# Altium footprint library Connector_Molex.PcbLib: 815 footprints (part 36 of 51)
Each footprint in its own frame and in the unit in brackets; x right, y up, seen from the top. Pads: shape width x height; smd on the part's side, far side on the other; paste and mask are expansions set on the pad; w line width, h text height; cw(c..) or ccw(c..) is an arc to the next point about the centre after c.
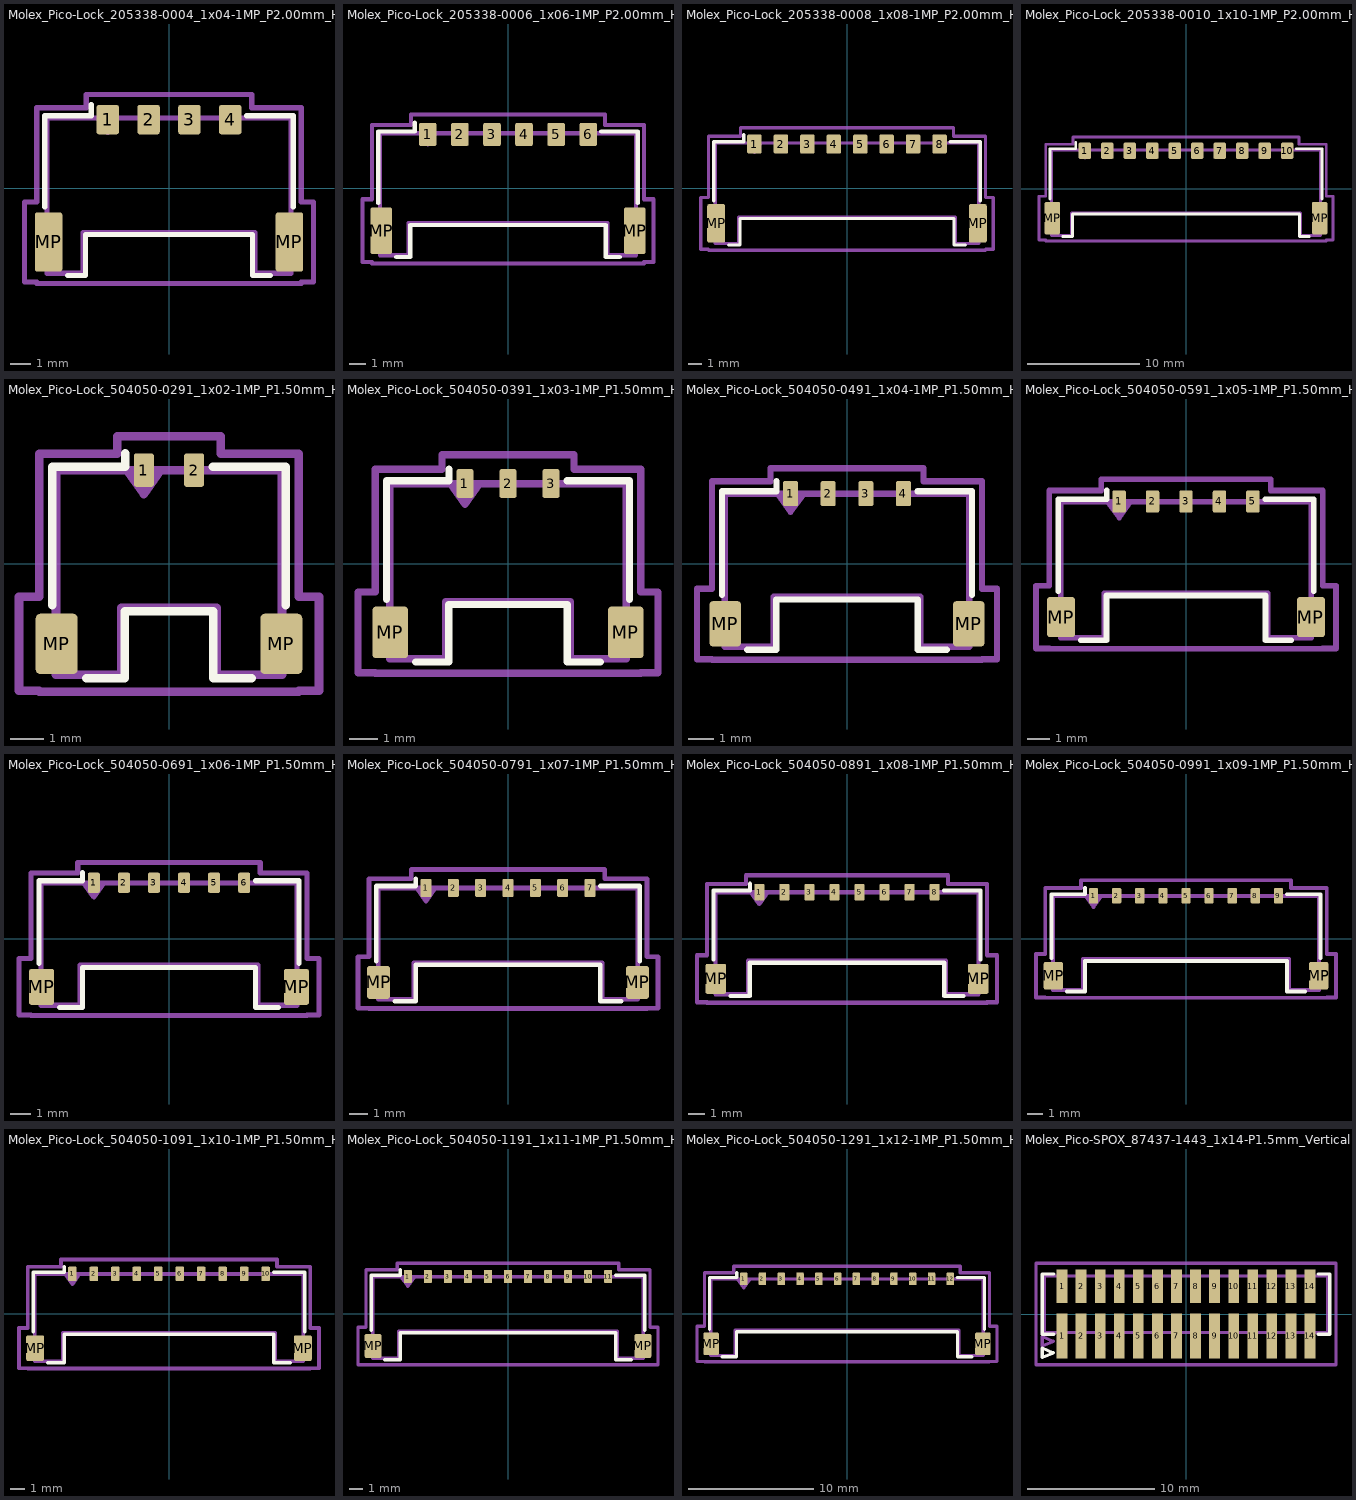
[diagram p35: the footprints below, top view; thin cyan lines are the x and y axes]

## Molex_Pico-Lock_205338-0004_1x04-1MP_P2.00mm_Horizontal [mm]
pads (6):
  rrect23% 1.1x1.45 smd: 1(-3,3.36) 2(-1,3.36) 3(1,3.36) 4(3,3.36)
  rrect19% 1.35x2.9 smd: MP(-5.895,-2.635) MP(5.895,-2.635)
F.SilkS:
  lines w0.254: -6.085,-0.925 -6.085,3.545 -3.81,3.545 -3.81,4.085 ; -4.96,-4.275 -4.09,-4.275 -4.09,-2.275 4.09,-2.275 4.09,-4.275 4.96,-4.275 ; 3.81,3.545 6.085,3.545 6.085,-0.925
Top Assembly:
  lines w0.254: -3.5,3.435 -3,2.728 -2.5,3.435 ; -5.975,-4.165 -4.2,-4.165 -4.2,-2.165 4.2,-2.165 4.2,-4.165 5.975,-4.165 5.975,3.435 -5.975,3.435 -5.975,-4.165
  text "'.Designator'" at -4.047,-1.21 h1
Top Courtyard:
  lines w0.254: -7.07,-4.59 -6.48,-4.59 -6.48,-4.67 6.48,-4.67 6.48,-4.59 7.07,-4.59 7.07,-0.68 6.48,-0.68 6.48,3.94 4.05,3.94 4.05,4.59 -4.05,4.59 -4.05,3.94 -6.48,3.94 -6.48,-0.68 -7.07,-0.68 -7.07,-4.59
Top Designator:
  text ".Designator" at -7.618,-0.548 h1.52

## Molex_Pico-Lock_205338-0006_1x06-1MP_P2.00mm_Horizontal [mm]
pads (8):
  rrect23% 1.1x1.45 smd: 1(-5,3.36) 2(-3,3.36) 3(-1,3.36) 4(1,3.36) 5(3,3.36) 6(5,3.36)
  rrect19% 1.35x2.9 smd: MP(-7.895,-2.635) MP(7.895,-2.635)
F.SilkS:
  lines w0.254: -8.085,-0.925 -8.085,3.545 -5.81,3.545 -5.81,4.085 ; -6.96,-4.275 -6.09,-4.275 -6.09,-2.275 6.09,-2.275 6.09,-4.275 6.96,-4.275 ; 5.81,3.545 8.085,3.545 8.085,-0.925
Top Assembly:
  lines w0.254: -5.5,3.435 -5,2.728 -4.5,3.435 ; -7.975,-4.165 -6.2,-4.165 -6.2,-2.165 6.2,-2.165 6.2,-4.165 7.975,-4.165 7.975,3.435 -7.975,3.435 -7.975,-4.165
  text "'.Designator'" at -4.047,-1.21 h1
Top Courtyard:
  lines w0.254: -9.07,-4.59 -8.48,-4.59 -8.48,-4.67 8.48,-4.67 8.48,-4.59 9.07,-4.59 9.07,-0.68 8.48,-0.68 8.48,3.94 6.05,3.94 6.05,4.59 -6.05,4.59 -6.05,3.94 -8.48,3.94 -8.48,-0.68 -9.07,-0.68 -9.07,-4.59
Top Designator:
  text ".Designator" at -7.618,-0.548 h1.52

## Molex_Pico-Lock_205338-0008_1x08-1MP_P2.00mm_Horizontal [mm]
pads (10):
  rrect23% 1.1x1.45 smd: 1(-7,3.36) 2(-5,3.36) 3(-3,3.36) 4(-1,3.36) 5(1,3.36) 6(3,3.36) 7(5,3.36) 8(7,3.36)
  rrect19% 1.35x2.9 smd: MP(-9.895,-2.635) MP(9.895,-2.635)
F.SilkS:
  lines w0.254: -10.085,-0.925 -10.085,3.545 -7.81,3.545 -7.81,4.085 ; -8.96,-4.275 -8.09,-4.275 -8.09,-2.275 8.09,-2.275 8.09,-4.275 8.96,-4.275 ; 7.81,3.545 10.085,3.545 10.085,-0.925
Top Assembly:
  lines w0.254: -7.5,3.435 -7,2.728 -6.5,3.435 ; -9.975,-4.165 -8.2,-4.165 -8.2,-2.165 8.2,-2.165 8.2,-4.165 9.975,-4.165 9.975,3.435 -9.975,3.435 -9.975,-4.165
  text "'.Designator'" at -4.047,-1.21 h1
Top Courtyard:
  lines w0.254: -11.07,-4.59 -10.48,-4.59 -10.48,-4.67 10.48,-4.67 10.48,-4.59 11.07,-4.59 11.07,-0.68 10.48,-0.68 10.48,3.94 8.05,3.94 8.05,4.59 -8.05,4.59 -8.05,3.94 -10.48,3.94 -10.48,-0.68 -11.07,-0.68 -11.07,-4.59
Top Designator:
  text ".Designator" at -7.618,-0.548 h1.52

## Molex_Pico-Lock_205338-0010_1x10-1MP_P2.00mm_Horizontal [mm]
pads (12):
  rrect23% 1.1x1.45 smd: 1(-9,3.36) 2(-7,3.36) 3(-5,3.36) 4(-3,3.36) 5(-1,3.36) 6(1,3.36) 7(3,3.36) 8(5,3.36) 9(7,3.36) 10(9,3.36)
  rrect19% 1.35x2.9 smd: MP(-11.895,-2.635) MP(11.895,-2.635)
F.SilkS:
  lines w0.254: -12.085,-0.925 -12.085,3.545 -9.81,3.545 -9.81,4.085 ; -10.96,-4.275 -10.09,-4.275 -10.09,-2.275 10.09,-2.275 10.09,-4.275 10.96,-4.275 ; 9.81,3.545 12.085,3.545 12.085,-0.925
Top Assembly:
  lines w0.254: -9.5,3.435 -9,2.728 -8.5,3.435 ; -11.975,-4.165 -10.2,-4.165 -10.2,-2.165 10.2,-2.165 10.2,-4.165 11.975,-4.165 11.975,3.435 -11.975,3.435 -11.975,-4.165
  text "'.Designator'" at -4.047,-1.21 h1
Top Courtyard:
  lines w0.254: -13.07,-4.59 -12.48,-4.59 -12.48,-4.67 12.48,-4.67 12.48,-4.59 13.07,-4.59 13.07,-0.68 12.48,-0.68 12.48,3.94 10.05,3.94 10.05,4.59 -10.05,4.59 -10.05,3.94 -12.48,3.94 -12.48,-0.68 -13.07,-0.68 -13.07,-4.59
Top Designator:
  text ".Designator" at -7.618,-0.548 h1.52

## Molex_Pico-Lock_504050-0291_1x02-1MP_P1.50mm_Horizontal [mm]
pads (4):
  rrect25% 0.6x1 smd: 1(-0.75,2.795) 2(0.75,2.795)
  rrect20% 1.25x1.8 smd: MP(-3.355,-2.395) MP(3.355,-2.395)
F.SilkS:
  lines w0.254: -3.485,-1.235 -3.485,2.895 -1.31,2.895 -1.31,3.295 ; -2.47,-3.425 -1.315,-3.425 -1.315,-1.425 1.315,-1.425 1.315,-3.425 2.47,-3.425 ; 1.31,2.895 3.485,2.895 3.485,-1.235
Top Assembly:
  lines w0.254: -1.25,2.785 -0.75,2.078 -0.25,2.785 ; -3.375,-3.315 -1.425,-3.315 -1.425,-1.315 1.425,-1.315 1.425,-3.315 3.375,-3.315 3.375,2.785 -3.375,2.785 -3.375,-3.315
  text "'.Designator'" at -4.047,-1.11 h1
Top Courtyard:
  lines w0.254: -4.48,-3.8 -3.88,-3.8 -3.88,-3.82 3.88,-3.82 3.88,-3.8 4.48,-3.8 4.48,-0.99 3.88,-0.99 3.88,3.29 1.55,3.29 1.55,3.8 -1.55,3.8 -1.55,3.29 -3.88,3.29 -3.88,-0.99 -4.48,-0.99 -4.48,-3.8
Top Designator:
  text ".Designator" at -7.618,-0.518 h1.52

## Molex_Pico-Lock_504050-0391_1x03-1MP_P1.50mm_Horizontal [mm]
pads (5):
  rrect25% 0.6x1 smd: 1(-1.5,2.795) 2(0,2.795) 3(1.5,2.795)
  rrect20% 1.25x1.8 smd: MP(-4.105,-2.395) MP(4.105,-2.395)
F.SilkS:
  lines w0.254: -4.235,-1.235 -4.235,2.895 -2.06,2.895 -2.06,3.295 ; -3.22,-3.425 -2.065,-3.425 -2.065,-1.425 2.065,-1.425 2.065,-3.425 3.22,-3.425 ; 2.06,2.895 4.235,2.895 4.235,-1.235
Top Assembly:
  lines w0.254: -2,2.785 -1.5,2.078 -1,2.785 ; -4.125,-3.315 -2.175,-3.315 -2.175,-1.315 2.175,-1.315 2.175,-3.315 4.125,-3.315 4.125,2.785 -4.125,2.785 -4.125,-3.315
  text "'.Designator'" at -4.047,-1.11 h1
Top Courtyard:
  lines w0.254: -5.23,-3.8 -4.63,-3.8 -4.63,-3.82 4.63,-3.82 4.63,-3.8 5.23,-3.8 5.23,-0.99 4.63,-0.99 4.63,3.29 2.3,3.29 2.3,3.8 -2.3,3.8 -2.3,3.29 -4.63,3.29 -4.63,-0.99 -5.23,-0.99 -5.23,-3.8
Top Designator:
  text ".Designator" at -7.618,-0.518 h1.52

## Molex_Pico-Lock_504050-0491_1x04-1MP_P1.50mm_Horizontal [mm]
pads (6):
  rrect25% 0.6x1 smd: 1(-2.25,2.795) 2(-0.75,2.795) 3(0.75,2.795) 4(2.25,2.795)
  rrect20% 1.25x1.8 smd: MP(-4.855,-2.395) MP(4.855,-2.395)
F.SilkS:
  lines w0.254: -4.985,-1.235 -4.985,2.895 -2.81,2.895 -2.81,3.295 ; -3.97,-3.425 -2.815,-3.425 -2.815,-1.425 2.815,-1.425 2.815,-3.425 3.97,-3.425 ; 2.81,2.895 4.985,2.895 4.985,-1.235
Top Assembly:
  lines w0.254: -2.75,2.785 -2.25,2.078 -1.75,2.785 ; -4.875,-3.315 -2.925,-3.315 -2.925,-1.315 2.925,-1.315 2.925,-3.315 4.875,-3.315 4.875,2.785 -4.875,2.785 -4.875,-3.315
  text "'.Designator'" at -4.047,-1.11 h1
Top Courtyard:
  lines w0.254: -5.98,-3.8 -5.38,-3.8 -5.38,-3.82 5.38,-3.82 5.38,-3.8 5.98,-3.8 5.98,-0.99 5.38,-0.99 5.38,3.29 3.05,3.29 3.05,3.8 -3.05,3.8 -3.05,3.29 -5.38,3.29 -5.38,-0.99 -5.98,-0.99 -5.98,-3.8
Top Designator:
  text ".Designator" at -7.618,-0.518 h1.52

## Molex_Pico-Lock_504050-0591_1x05-1MP_P1.50mm_Horizontal [mm]
pads (7):
  rrect25% 0.6x1 smd: 1(-3,2.795) 2(-1.5,2.795) 3(0,2.795) 4(1.5,2.795) 5(3,2.795)
  rrect20% 1.25x1.8 smd: MP(-5.605,-2.395) MP(5.605,-2.395)
F.SilkS:
  lines w0.254: -5.735,-1.235 -5.735,2.895 -3.56,2.895 -3.56,3.295 ; -4.72,-3.425 -3.565,-3.425 -3.565,-1.425 3.565,-1.425 3.565,-3.425 4.72,-3.425 ; 3.56,2.895 5.735,2.895 5.735,-1.235
Top Assembly:
  lines w0.254: -3.5,2.785 -3,2.078 -2.5,2.785 ; -5.625,-3.315 -3.675,-3.315 -3.675,-1.315 3.675,-1.315 3.675,-3.315 5.625,-3.315 5.625,2.785 -5.625,2.785 -5.625,-3.315
  text "'.Designator'" at -4.047,-1.11 h1
Top Courtyard:
  lines w0.254: -6.73,-3.8 -6.13,-3.8 -6.13,-3.82 6.13,-3.82 6.13,-3.8 6.73,-3.8 6.73,-0.99 6.13,-0.99 6.13,3.29 3.8,3.29 3.8,3.8 -3.8,3.8 -3.8,3.29 -6.13,3.29 -6.13,-0.99 -6.73,-0.99 -6.73,-3.8
Top Designator:
  text ".Designator" at -7.618,-0.518 h1.52

## Molex_Pico-Lock_504050-0691_1x06-1MP_P1.50mm_Horizontal [mm]
pads (8):
  rrect25% 0.6x1 smd: 1(-3.75,2.795) 2(-2.25,2.795) 3(-0.75,2.795) 4(0.75,2.795) 5(2.25,2.795) 6(3.75,2.795)
  rrect20% 1.25x1.8 smd: MP(-6.355,-2.395) MP(6.355,-2.395)
F.SilkS:
  lines w0.254: -6.485,-1.235 -6.485,2.895 -4.31,2.895 -4.31,3.295 ; -5.47,-3.425 -4.315,-3.425 -4.315,-1.425 4.315,-1.425 4.315,-3.425 5.47,-3.425 ; 4.31,2.895 6.485,2.895 6.485,-1.235
Top Assembly:
  lines w0.254: -4.25,2.785 -3.75,2.078 -3.25,2.785 ; -6.375,-3.315 -4.425,-3.315 -4.425,-1.315 4.425,-1.315 4.425,-3.315 6.375,-3.315 6.375,2.785 -6.375,2.785 -6.375,-3.315
  text "'.Designator'" at -4.047,-1.11 h1
Top Courtyard:
  lines w0.254: -7.48,-3.8 -6.88,-3.8 -6.88,-3.82 6.88,-3.82 6.88,-3.8 7.48,-3.8 7.48,-0.99 6.88,-0.99 6.88,3.29 4.55,3.29 4.55,3.8 -4.55,3.8 -4.55,3.29 -6.88,3.29 -6.88,-0.99 -7.48,-0.99 -7.48,-3.8
Top Designator:
  text ".Designator" at -7.618,-0.518 h1.52

## Molex_Pico-Lock_504050-0791_1x07-1MP_P1.50mm_Horizontal [mm]
pads (9):
  rrect25% 0.6x1 smd: 1(-4.5,2.795) 2(-3,2.795) 3(-1.5,2.795) 4(0,2.795) 5(1.5,2.795) 6(3,2.795) 7(4.5,2.795)
  rrect20% 1.25x1.8 smd: MP(-7.105,-2.395) MP(7.105,-2.395)
F.SilkS:
  lines w0.254: -7.235,-1.235 -7.235,2.895 -5.06,2.895 -5.06,3.295 ; -6.22,-3.425 -5.065,-3.425 -5.065,-1.425 5.065,-1.425 5.065,-3.425 6.22,-3.425 ; 5.06,2.895 7.235,2.895 7.235,-1.235
Top Assembly:
  lines w0.254: -5,2.785 -4.5,2.078 -4,2.785 ; -7.125,-3.315 -5.175,-3.315 -5.175,-1.315 5.175,-1.315 5.175,-3.315 7.125,-3.315 7.125,2.785 -7.125,2.785 -7.125,-3.315
  text "'.Designator'" at -4.047,-1.11 h1
Top Courtyard:
  lines w0.254: -8.23,-3.8 -7.63,-3.8 -7.63,-3.82 7.63,-3.82 7.63,-3.8 8.23,-3.8 8.23,-0.99 7.63,-0.99 7.63,3.29 5.3,3.29 5.3,3.8 -5.3,3.8 -5.3,3.29 -7.63,3.29 -7.63,-0.99 -8.23,-0.99 -8.23,-3.8
Top Designator:
  text ".Designator" at -7.618,-0.518 h1.52

## Molex_Pico-Lock_504050-0891_1x08-1MP_P1.50mm_Horizontal [mm]
pads (10):
  rrect25% 0.6x1 smd: 1(-5.25,2.795) 2(-3.75,2.795) 3(-2.25,2.795) 4(-0.75,2.795) 5(0.75,2.795) 6(2.25,2.795) 7(3.75,2.795) 8(5.25,2.795)
  rrect20% 1.25x1.8 smd: MP(-7.855,-2.395) MP(7.855,-2.395)
F.SilkS:
  lines w0.254: -7.985,-1.235 -7.985,2.895 -5.81,2.895 -5.81,3.295 ; -6.97,-3.425 -5.815,-3.425 -5.815,-1.425 5.815,-1.425 5.815,-3.425 6.97,-3.425 ; 5.81,2.895 7.985,2.895 7.985,-1.235
Top Assembly:
  lines w0.254: -5.75,2.785 -5.25,2.078 -4.75,2.785 ; -7.875,-3.315 -5.925,-3.315 -5.925,-1.315 5.925,-1.315 5.925,-3.315 7.875,-3.315 7.875,2.785 -7.875,2.785 -7.875,-3.315
  text "'.Designator'" at -4.047,-1.11 h1
Top Courtyard:
  lines w0.254: -8.98,-3.8 -8.38,-3.8 -8.38,-3.82 8.38,-3.82 8.38,-3.8 8.98,-3.8 8.98,-0.99 8.38,-0.99 8.38,3.29 6.05,3.29 6.05,3.8 -6.05,3.8 -6.05,3.29 -8.38,3.29 -8.38,-0.99 -8.98,-0.99 -8.98,-3.8
Top Designator:
  text ".Designator" at -7.618,-0.518 h1.52

## Molex_Pico-Lock_504050-0991_1x09-1MP_P1.50mm_Horizontal [mm]
pads (11):
  rrect25% 0.6x1 smd: 1(-6,2.795) 2(-4.5,2.795) 3(-3,2.795) 4(-1.5,2.795) 5(0,2.795) 6(1.5,2.795) 7(3,2.795) 8(4.5,2.795) 9(6,2.795)
  rrect20% 1.25x1.8 smd: MP(-8.605,-2.395) MP(8.605,-2.395)
F.SilkS:
  lines w0.254: -8.735,-1.235 -8.735,2.895 -6.56,2.895 -6.56,3.295 ; -7.72,-3.425 -6.565,-3.425 -6.565,-1.425 6.565,-1.425 6.565,-3.425 7.72,-3.425 ; 6.56,2.895 8.735,2.895 8.735,-1.235
Top Assembly:
  lines w0.254: -6.5,2.785 -6,2.078 -5.5,2.785 ; -8.625,-3.315 -6.675,-3.315 -6.675,-1.315 6.675,-1.315 6.675,-3.315 8.625,-3.315 8.625,2.785 -8.625,2.785 -8.625,-3.315
  text "'.Designator'" at -4.047,-1.11 h1
Top Courtyard:
  lines w0.254: -9.73,-3.8 -9.13,-3.8 -9.13,-3.82 9.13,-3.82 9.13,-3.8 9.73,-3.8 9.73,-0.99 9.13,-0.99 9.13,3.29 6.8,3.29 6.8,3.8 -6.8,3.8 -6.8,3.29 -9.13,3.29 -9.13,-0.99 -9.73,-0.99 -9.73,-3.8
Top Designator:
  text ".Designator" at -7.618,-0.518 h1.52

## Molex_Pico-Lock_504050-1091_1x10-1MP_P1.50mm_Horizontal [mm]
pads (12):
  rrect25% 0.6x1 smd: 1(-6.75,2.795) 2(-5.25,2.795) 3(-3.75,2.795) 4(-2.25,2.795) 5(-0.75,2.795) 6(0.75,2.795) 7(2.25,2.795) 8(3.75,2.795) 9(5.25,2.795) 10(6.75,2.795)
  rrect20% 1.25x1.8 smd: MP(-9.355,-2.395) MP(9.355,-2.395)
F.SilkS:
  lines w0.254: -9.485,-1.235 -9.485,2.895 -7.31,2.895 -7.31,3.295 ; -8.47,-3.425 -7.315,-3.425 -7.315,-1.425 7.315,-1.425 7.315,-3.425 8.47,-3.425 ; 7.31,2.895 9.485,2.895 9.485,-1.235
Top Assembly:
  lines w0.254: -7.25,2.785 -6.75,2.078 -6.25,2.785 ; -9.375,-3.315 -7.425,-3.315 -7.425,-1.315 7.425,-1.315 7.425,-3.315 9.375,-3.315 9.375,2.785 -9.375,2.785 -9.375,-3.315
  text "'.Designator'" at -4.047,-1.11 h1
Top Courtyard:
  lines w0.254: -10.48,-3.8 -9.88,-3.8 -9.88,-3.82 9.88,-3.82 9.88,-3.8 10.48,-3.8 10.48,-0.99 9.88,-0.99 9.88,3.29 7.55,3.29 7.55,3.8 -7.55,3.8 -7.55,3.29 -9.88,3.29 -9.88,-0.99 -10.48,-0.99 -10.48,-3.8
Top Designator:
  text ".Designator" at -7.618,-0.518 h1.52

## Molex_Pico-Lock_504050-1191_1x11-1MP_P1.50mm_Horizontal [mm]
pads (13):
  rrect25% 0.6x1 smd: 1(-7.5,2.795) 2(-6,2.795) 3(-4.5,2.795) 4(-3,2.795) 5(-1.5,2.795) 6(0,2.795) 7(1.5,2.795) 8(3,2.795) 9(4.5,2.795) 10(6,2.795) 11(7.5,2.795)
  rrect20% 1.25x1.8 smd: MP(-10.105,-2.395) MP(10.105,-2.395)
F.SilkS:
  lines w0.254: -10.235,-1.235 -10.235,2.895 -8.06,2.895 -8.06,3.295 ; -9.22,-3.425 -8.065,-3.425 -8.065,-1.425 8.065,-1.425 8.065,-3.425 9.22,-3.425 ; 8.06,2.895 10.235,2.895 10.235,-1.235
Top Assembly:
  lines w0.254: -8,2.785 -7.5,2.078 -7,2.785 ; -10.125,-3.315 -8.175,-3.315 -8.175,-1.315 8.175,-1.315 8.175,-3.315 10.125,-3.315 10.125,2.785 -10.125,2.785 -10.125,-3.315
  text "'.Designator'" at -4.047,-1.11 h1
Top Courtyard:
  lines w0.254: -11.23,-3.8 -10.63,-3.8 -10.63,-3.82 10.63,-3.82 10.63,-3.8 11.23,-3.8 11.23,-0.99 10.63,-0.99 10.63,3.29 8.3,3.29 8.3,3.8 -8.3,3.8 -8.3,3.29 -10.63,3.29 -10.63,-0.99 -11.23,-0.99 -11.23,-3.8
Top Designator:
  text ".Designator" at -7.618,-0.518 h1.52

## Molex_Pico-Lock_504050-1291_1x12-1MP_P1.50mm_Horizontal [mm]
pads (14):
  rrect25% 0.6x1 smd: 1(-8.25,2.795) 2(-6.75,2.795) 3(-5.25,2.795) 4(-3.75,2.795) 5(-2.25,2.795) 6(-0.75,2.795) 7(0.75,2.795) 8(2.25,2.795) 9(3.75,2.795) 10(5.25,2.795) 11(6.75,2.795) 12(8.25,2.795)
  rrect20% 1.25x1.8 smd: MP(-10.855,-2.395) MP(10.855,-2.395)
F.SilkS:
  lines w0.254: -10.985,-1.235 -10.985,2.895 -8.81,2.895 -8.81,3.295 ; -9.97,-3.425 -8.815,-3.425 -8.815,-1.425 8.815,-1.425 8.815,-3.425 9.97,-3.425 ; 8.81,2.895 10.985,2.895 10.985,-1.235
Top Assembly:
  lines w0.254: -8.75,2.785 -8.25,2.078 -7.75,2.785 ; -10.875,-3.315 -8.925,-3.315 -8.925,-1.315 8.925,-1.315 8.925,-3.315 10.875,-3.315 10.875,2.785 -10.875,2.785 -10.875,-3.315
  text "'.Designator'" at -4.047,-1.11 h1
Top Courtyard:
  lines w0.254: -11.98,-3.8 -11.38,-3.8 -11.38,-3.82 11.38,-3.82 11.38,-3.8 11.98,-3.8 11.98,-0.99 11.38,-0.99 11.38,3.29 9.05,3.29 9.05,3.8 -9.05,3.8 -9.05,3.29 -11.38,3.29 -11.38,-0.99 -11.98,-0.99 -11.98,-3.8
Top Designator:
  text ".Designator" at -7.618,-0.518 h1.52

## Molex_Pico-SPOX_87437-1443_1x14-P1.5mm_Vertical [mm]
pads (28):
  rect 0.85x3.55 smd: 1(-9.75,-1.725) 2(-8.25,-1.725) 3(-6.75,-1.725) 4(-5.25,-1.725) 5(-3.75,-1.725) 6(-2.25,-1.725) 7(-0.75,-1.725) 8(0.75,-1.725) 9(2.25,-1.725) 10(3.75,-1.725) 11(5.25,-1.725) 12(6.75,-1.725) 13(8.25,-1.725) 14(9.75,-1.725)
  rect 0.85x2.65 smd: 1(-9.75,2.175) 2(-8.25,2.175) 3(-6.75,2.175) 4(-5.25,2.175) 5(-3.75,2.175) 6(-2.25,2.175) 7(-0.75,2.175) 8(0.75,2.175) 9(2.25,2.175) 10(3.75,2.175) 11(5.25,2.175) 12(6.75,2.175) 13(8.25,2.175) 14(9.75,2.175)
F.SilkS:
  lines w0.254: -10.4,-1.6 -11.3,-1.6 -11.3,3.15 -10.4,3.15 ; 10.4,-1.6 11.3,-1.6 11.3,3.15 10.4,3.15 ; -11.3,-3.41 -10.45,-3.05 -11.3,-2.68 -11.3,-3.41
Top Assembly:
  lines w0.254: -11.3,-2.51 -10.45,-2.15 -11.3,-1.78 -11.3,-2.51 ; -11.15,-1.45 11.15,-1.45 11.15,3 -11.15,3 -11.15,-1.45
  text "'.Designator'" at -4.047,-0.84 h1
Top Courtyard:
  lines w0.254: -11.8,-4 11.8,-4 11.8,4 -11.8,4 -11.8,-4
Top Designator:
  text ".Designator" at -7.618,-0.508 h1.52